# Altium integrated library Linear Technology Power Management Switching Regulator LT1074-LT8705.IntLib: 2252 symbols (part 4 of 148)
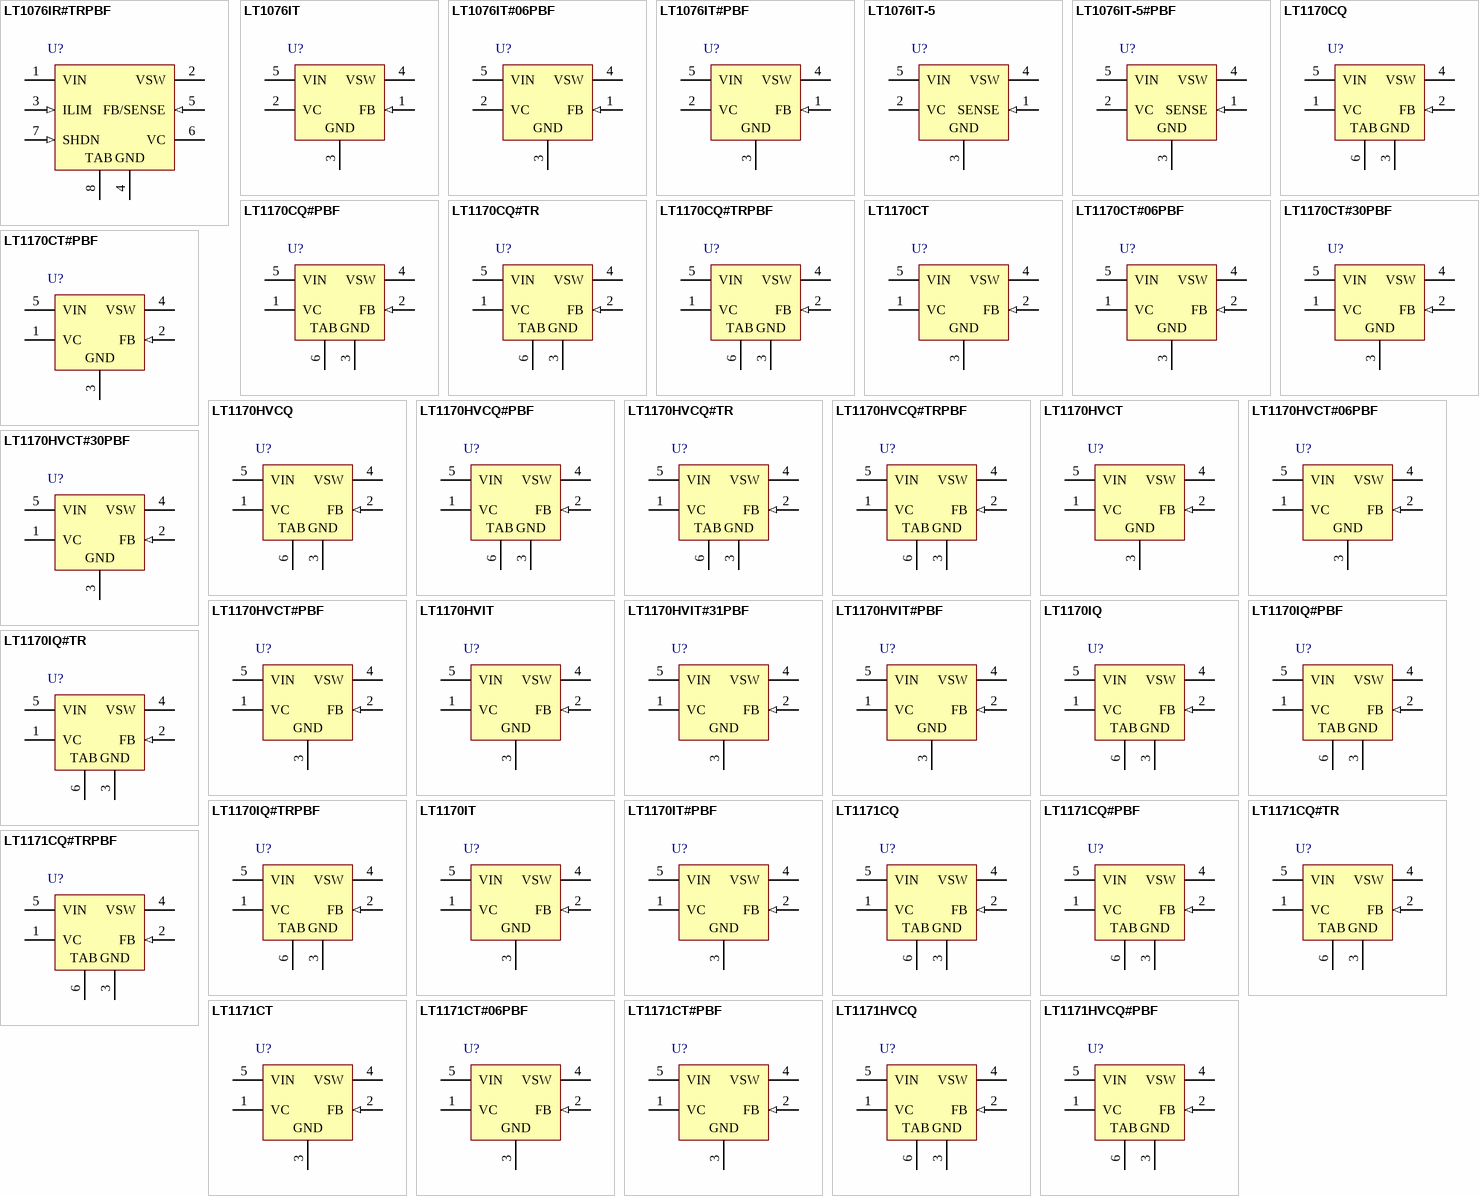
[diagram p74: symbols LT1076IR#TRPBF to LT1171HVCQ#PBF]

## LT1170HVCQ#PBF
designator U?
100 kHz, 5 A, High Efficiency Switching Regulator, 5-pin DPAK (Q-5), 0 to 100 degC, Pb-Free; Manufacturer: Linear Technology; PartNumber: LT1170HVCQ#PBF; Frequency Sync Range: 120kHz - 160kHz; Number of Outputs: 1; DatasheetVersion: Rev. G; PackageVersion: Rev. F, 09/2011; PackageReference: Q-5; PackageDescription: 5-Pin Plastic DD Pak, Body 10.2235 x 8.89 mm, Pitch 1.702 mm; Supplier 1: Digi-Key; Supplier Part Number 1: LT1170HVCQ#PBF-ND; Supplier 2: Farnell; Supplier Part Number 2: 2294887; Supplier 3: Newark; Supplier Part Number 3: 57M2351; RoHS: TRUE; Mounting Technology: Surface Mount; ComponentLink1Description: Manufacturer URL; ComponentLink1URL: http://www.linear.com/; ComponentLink2Description: Datasheet; ComponentLink2URL: http://cds.linear.com/docs/en/datasheet/117012fg.pdf; ComponentLink3Description: Package Specification; ComponentLink3URL: http://cds.linear.com/docs/en/packaging/Q%20DD5%2005-08-1461%20Rev%20F.pdf
footprint LT-Q-5_N (DPAK, 5-Leads, Body 10.22x8.89mm, Pitch 1.702mm, IPC Medium Density)
footprint LT-Q-5_L (DPAK, 5-Leads, Body 10.22x8.89mm, Pitch 1.702mm, IPC High Density)
footprint LT-Q-5_M (DPAK, 5-Leads, Body 10.22x8.89mm, Pitch 1.702mm, IPC Low Density)
pins: 1 VC, 2 FB (in), 3 GND (power), 4 VSW (power), 5 VIN (power), 6 TAB

## LT1170HVCQ#TR
designator U?
100 kHz, 5 A, High Efficiency Switching Regulator, 5-pin DPAK (Q-5), 0 to 100 degC, Tape and Reel; Manufacturer: Linear Technology; PartNumber: LT1170HVCQ#TR; Frequency Sync Range: 120kHz - 160kHz; Number of Outputs: 1; DatasheetVersion: Rev. G; PackageVersion: Rev. F, 09/2011; PackageReference: Q-5; PackageDescription: 5-Pin Plastic DD Pak, Body 10.2235 x 8.89 mm, Pitch 1.702 mm; Supplier 1: Digi-Key; Supplier Part Number 1: LT1170HVCQTR-ND; Packing: Tape and Reel; RoHS: FALSE; Mounting Technology: Surface Mount; ComponentLink1Description: Manufacturer URL; ComponentLink1URL: http://www.linear.com/; ComponentLink2Description: Datasheet; ComponentLink2URL: http://cds.linear.com/docs/en/datasheet/117012fg.pdf; ComponentLink3Description: Package Specification; ComponentLink3URL: http://cds.linear.com/docs/en/packaging/Q%20DD5%2005-08-1461%20Rev%20F.pdf
footprint LT-Q-5_N (DPAK, 5-Leads, Body 10.22x8.89mm, Pitch 1.702mm, IPC Medium Density)
footprint LT-Q-5_L (DPAK, 5-Leads, Body 10.22x8.89mm, Pitch 1.702mm, IPC High Density)
footprint LT-Q-5_M (DPAK, 5-Leads, Body 10.22x8.89mm, Pitch 1.702mm, IPC Low Density)
pins: 1 VC, 2 FB (in), 3 GND (power), 4 VSW (power), 5 VIN (power), 6 TAB

## LT1170HVCQ#TRPBF
designator U?
100 kHz, 5 A, High Efficiency Switching Regulator, 5-pin DPAK (Q-5), 0 to 100 degC, Pb-Free, Tape and Reel; Manufacturer: Linear Technology; PartNumber: LT1170HVCQ#TRPBF; Frequency Sync Range: 120kHz - 160kHz; Number of Outputs: 1; DatasheetVersion: Rev. G; PackageVersion: Rev. F, 09/2011; PackageReference: Q-5; PackageDescription: 5-Pin Plastic DD Pak, Body 10.2235 x 8.89 mm, Pitch 1.702 mm; Supplier 1: Digi-Key; Supplier Part Number 1: LT1170HVCQ#TRPBF-ND; Packing: Tape and Reel; RoHS: TRUE; Mounting Technology: Surface Mount; ComponentLink1Description: Manufacturer URL; ComponentLink1URL: http://www.linear.com/; ComponentLink2Description: Datasheet; ComponentLink2URL: http://cds.linear.com/docs/en/datasheet/117012fg.pdf; ComponentLink3Description: Package Specification; ComponentLink3URL: http://cds.linear.com/docs/en/packaging/Q%20DD5%2005-08-1461%20Rev%20F.pdf
footprint LT-Q-5_N (DPAK, 5-Leads, Body 10.22x8.89mm, Pitch 1.702mm, IPC Medium Density)
footprint LT-Q-5_L (DPAK, 5-Leads, Body 10.22x8.89mm, Pitch 1.702mm, IPC High Density)
footprint LT-Q-5_M (DPAK, 5-Leads, Body 10.22x8.89mm, Pitch 1.702mm, IPC Low Density)
pins: 1 VC, 2 FB (in), 3 GND (power), 4 VSW (power), 5 VIN (power), 6 TAB

## LT1170HVCT
designator U?
100 kHz, 5 A, High Efficiency Switching Regulator, 5-pin FM (T-5), 0 to 100 degC; Manufacturer: Linear Technology; PartNumber: LT1170HVCT; Frequency Sync Range: 120kHz - 160kHz; Number of Outputs: 1; DatasheetVersion: Rev. G; PackageVersion: Aug-10; PackageReference: T-5; PackageDescription: 5-Pin Plastic TO-220 (Standard), Body 10.224 x 8.89 mm, Pitch 1.7 mm; Supplier 1: Digi-Key; Supplier Part Number 1: LT1170HVCT-ND; RoHS: FALSE; Mounting Technology: Through Hole; ComponentLink1Description: Manufacturer URL; ComponentLink1URL: http://www.linear.com/; ComponentLink2Description: Datasheet; ComponentLink2URL: http://cds.linear.com/docs/en/datasheet/117012fg.pdf; ComponentLink3Description: Package Specification; ComponentLink3URL: http://cds.linear.com/docs/en/packaging/TO-220_5_05-08-1421.pdf
footprint LT-T-5-S (FM, 5-Leads, Body 10.55x4.6mm, Pitch 1.7mm)
pins: 1 VC, 2 FB (in), 3 GND (power), 4 VSW (power), 5 VIN (power)

## LT1170HVCT#06PBF
designator U?
100 kHz, 5 A, High Efficiency Switching Regulator, 5-pin FM (T-5), 0 to 100 degC, Pb-Free; Manufacturer: Linear Technology; PartNumber: LT1170HVCT#06PBF; Frequency Sync Range: 120kHz - 160kHz; Number of Outputs: 1; DatasheetVersion: Rev. G; PackageVersion: Aug-10; PackageReference: T-5; PackageDescription: 5-Pin Plastic TO-220 (Standard), Body 10.224 x 8.89 mm, Pitch 1.7 mm; Supplier 1: Digi-Key; Supplier Part Number 1: LT1170HVCT#06PBF-ND; Supplier 2: Farnell; Supplier Part Number 2: 2238155; Supplier 3: Newark; Supplier Part Number 3: 31P7606; RoHS: TRUE; Mounting Technology: Through Hole; ComponentLink1Description: Manufacturer URL; ComponentLink1URL: http://www.linear.com/; ComponentLink2Description: Datasheet; ComponentLink2URL: http://cds.linear.com/docs/en/datasheet/117012fg.pdf; ComponentLink3Description: Package Specification; ComponentLink3URL: http://cds.linear.com/docs/en/packaging/TO-220_5_05-08-1421.pdf
footprint LT-T-5-S (FM, 5-Leads, Body 10.55x4.6mm, Pitch 1.7mm)
pins: 1 VC, 2 FB (in), 3 GND (power), 4 VSW (power), 5 VIN (power)

## LT1170HVCT#30PBF
designator U?
100 kHz, 5 A, High Efficiency Switching Regulator, 5-pin FM (T-5), 0 to 100 degC, Pb-Free; Manufacturer: Linear Technology; PartNumber: LT1170HVCT#30PBF; Frequency Sync Range: 120kHz - 160kHz; Number of Outputs: 1; DatasheetVersion: Rev. G; PackageVersion: Aug-10; PackageReference: T-5; PackageDescription: 5-Pin Plastic TO-220 (Standard), Body 10.224 x 8.89 mm, Pitch 1.7 mm; Supplier 1: Digi-Key; Supplier Part Number 1: LT1170HVCT#30PBF-ND; RoHS: TRUE; Mounting Technology: Through Hole; ComponentLink1Description: Manufacturer URL; ComponentLink1URL: http://www.linear.com/; ComponentLink2Description: Datasheet; ComponentLink2URL: http://cds.linear.com/docs/en/datasheet/117012fg.pdf; ComponentLink3Description: Package Specification; ComponentLink3URL: http://cds.linear.com/docs/en/packaging/TO-220_5_05-08-1421.pdf
footprint LT-T-5-S (FM, 5-Leads, Body 10.55x4.6mm, Pitch 1.7mm)
pins: 1 VC, 2 FB (in), 3 GND (power), 4 VSW (power), 5 VIN (power)

## LT1170HVCT#PBF
designator U?
100 kHz, 5 A, High Efficiency Switching Regulator, 5-pin FM (T-5), 0 to 100 degC, Pb-Free; Manufacturer: Linear Technology; PartNumber: LT1170HVCT#PBF; Frequency Sync Range: 120kHz - 160kHz; Number of Outputs: 1; DatasheetVersion: Rev. G; PackageVersion: Aug-10; PackageReference: T-5; PackageDescription: 5-Pin Plastic TO-220 (Standard), Body 10.224 x 8.89 mm, Pitch 1.7 mm; Supplier 1: Digi-Key; Supplier Part Number 1: LT1170HVCT#PBF-ND; Supplier 2: Farnell; Supplier Part Number 2: 9560165; Supplier 3: Newark; Supplier Part Number 3: 57M2355; RoHS: TRUE; Mounting Technology: Through Hole; ComponentLink1Description: Manufacturer URL; ComponentLink1URL: http://www.linear.com/; ComponentLink2Description: Datasheet; ComponentLink2URL: http://cds.linear.com/docs/en/datasheet/117012fg.pdf; ComponentLink3Description: Package Specification; ComponentLink3URL: http://cds.linear.com/docs/en/packaging/TO-220_5_05-08-1421.pdf
footprint LT-T-5-S (FM, 5-Leads, Body 10.55x4.6mm, Pitch 1.7mm)
pins: 1 VC, 2 FB (in), 3 GND (power), 4 VSW (power), 5 VIN (power)

## LT1170HVIT
designator U?
100 kHz, 5 A, High Efficiency Switching Regulator, 5-pin FM (T-5), -40 to 100 degC; Manufacturer: Linear Technology; PartNumber: LT1170HVIT; Frequency Sync Range: 120kHz - 160kHz; Number of Outputs: 1; DatasheetVersion: Rev. G; PackageVersion: Aug-10; PackageReference: T-5; PackageDescription: 5-Pin Plastic TO-220 (Standard), Body 10.224 x 8.89 mm, Pitch 1.7 mm; Supplier 1: Digi-Key; Supplier Part Number 1: LT1170HVIT-ND; Supplier 2: Newark; Supplier Part Number 2: 57M2357; RoHS: FALSE; Mounting Technology: Through Hole; ComponentLink1Description: Manufacturer URL; ComponentLink1URL: http://www.linear.com/; ComponentLink2Description: Datasheet; ComponentLink2URL: http://cds.linear.com/docs/en/datasheet/117012fg.pdf; ComponentLink3Description: Package Specification; ComponentLink3URL: http://cds.linear.com/docs/en/packaging/TO-220_5_05-08-1421.pdf
footprint LT-T-5-S (FM, 5-Leads, Body 10.55x4.6mm, Pitch 1.7mm)
pins: 1 VC, 2 FB (in), 3 GND (power), 4 VSW (power), 5 VIN (power)

## LT1170HVIT#31PBF
designator U?
100 kHz, 5 A, High Efficiency Switching Regulator, 5-pin FM (T-5), -40 to 100 degC, Pb-Free; Manufacturer: Linear Technology; PartNumber: LT1170HVIT#31PBF; Frequency Sync Range: 120kHz - 160kHz; Number of Outputs: 1; DatasheetVersion: Rev. G; PackageVersion: Aug-10; PackageReference: T-5; PackageDescription: 5-Pin Plastic TO-220 (Standard), Body 10.224 x 8.89 mm, Pitch 1.7 mm; Supplier 1: Digi-Key; Supplier Part Number 1: LT1170HVIT#31PBF-ND; Supplier 2: Newark; Supplier Part Number 2: 87T9238; RoHS: TRUE; Mounting Technology: Through Hole; ComponentLink1Description: Manufacturer URL; ComponentLink1URL: http://www.linear.com/; ComponentLink2Description: Datasheet; ComponentLink2URL: http://cds.linear.com/docs/en/datasheet/117012fg.pdf; ComponentLink3Description: Package Specification; ComponentLink3URL: http://cds.linear.com/docs/en/packaging/TO-220_5_05-08-1421.pdf
footprint LT-T-5-S (FM, 5-Leads, Body 10.55x4.6mm, Pitch 1.7mm)
pins: 1 VC, 2 FB (in), 3 GND (power), 4 VSW (power), 5 VIN (power)

## LT1170HVIT#PBF
designator U?
100 kHz, 5 A, High Efficiency Switching Regulator, 5-pin FM (T-5), -40 to 100 degC, Pb-Free; Manufacturer: Linear Technology; PartNumber: LT1170HVIT#PBF; Frequency Sync Range: 120kHz - 160kHz; Number of Outputs: 1; DatasheetVersion: Rev. G; PackageVersion: Aug-10; PackageReference: T-5; PackageDescription: 5-Pin Plastic TO-220 (Standard), Body 10.224 x 8.89 mm, Pitch 1.7 mm; Supplier 1: Digi-Key; Supplier Part Number 1: LT1170HVIT#PBF-ND; RoHS: TRUE; Mounting Technology: Through Hole; ComponentLink1Description: Manufacturer URL; ComponentLink1URL: http://www.linear.com/; ComponentLink2Description: Datasheet; ComponentLink2URL: http://cds.linear.com/docs/en/datasheet/117012fg.pdf; ComponentLink3Description: Package Specification; ComponentLink3URL: http://cds.linear.com/docs/en/packaging/TO-220_5_05-08-1421.pdf
footprint LT-T-5-S (FM, 5-Leads, Body 10.55x4.6mm, Pitch 1.7mm)
pins: 1 VC, 2 FB (in), 3 GND (power), 4 VSW (power), 5 VIN (power)

## LT1170IQ
designator U?
100 kHz, 5 A, High Efficiency Switching Regulator, 5-pin DPAK (Q-5), -40 to 100 degC; Manufacturer: Linear Technology; PartNumber: LT1170IQ; Frequency Sync Range: 120kHz - 160kHz; Number of Outputs: 1; DatasheetVersion: Rev. G; PackageVersion: Rev. F, 09/2011; PackageReference: Q-5; PackageDescription: 5-Pin Plastic DD Pak, Body 10.2235 x 8.89 mm, Pitch 1.702 mm; Supplier 1: Digi-Key; Supplier Part Number 1: LT1170IQ-ND; Supplier 2: Newark; Supplier Part Number 2: 57M2359; RoHS: FALSE; Mounting Technology: Surface Mount; ComponentLink1Description: Manufacturer URL; ComponentLink1URL: http://www.linear.com/; ComponentLink2Description: Datasheet; ComponentLink2URL: http://cds.linear.com/docs/en/datasheet/117012fg.pdf; ComponentLink3Description: Package Specification; ComponentLink3URL: http://cds.linear.com/docs/en/packaging/Q%20DD5%2005-08-1461%20Rev%20F.pdf
footprint LT-Q-5_N (DPAK, 5-Leads, Body 10.22x8.89mm, Pitch 1.702mm, IPC Medium Density)
footprint LT-Q-5_L (DPAK, 5-Leads, Body 10.22x8.89mm, Pitch 1.702mm, IPC High Density)
footprint LT-Q-5_M (DPAK, 5-Leads, Body 10.22x8.89mm, Pitch 1.702mm, IPC Low Density)
pins: 1 VC, 2 FB (in), 3 GND (power), 4 VSW (power), 5 VIN (power), 6 TAB

## LT1170IQ#PBF
designator U?
100 kHz, 5 A, High Efficiency Switching Regulator, 5-pin DPAK (Q-5), -40 to 100 degC, Pb-Free; Manufacturer: Linear Technology; PartNumber: LT1170IQ#PBF; Frequency Sync Range: 120kHz - 160kHz; Number of Outputs: 1; DatasheetVersion: Rev. G; PackageVersion: Rev. F, 09/2011; PackageReference: Q-5; PackageDescription: 5-Pin Plastic DD Pak, Body 10.2235 x 8.89 mm, Pitch 1.702 mm; Supplier 1: Digi-Key; Supplier Part Number 1: LT1170IQ#PBF-ND; Supplier 2: Farnell; Supplier Part Number 2: 2308584; Supplier 3: Newark; Supplier Part Number 3: 57M2360; RoHS: TRUE; Mounting Technology: Surface Mount; ComponentLink1Description: Manufacturer URL; ComponentLink1URL: http://www.linear.com/; ComponentLink2Description: Datasheet; ComponentLink2URL: http://cds.linear.com/docs/en/datasheet/117012fg.pdf; ComponentLink3Description: Package Specification; ComponentLink3URL: http://cds.linear.com/docs/en/packaging/Q%20DD5%2005-08-1461%20Rev%20F.pdf
footprint LT-Q-5_N (DPAK, 5-Leads, Body 10.22x8.89mm, Pitch 1.702mm, IPC Medium Density)
footprint LT-Q-5_L (DPAK, 5-Leads, Body 10.22x8.89mm, Pitch 1.702mm, IPC High Density)
footprint LT-Q-5_M (DPAK, 5-Leads, Body 10.22x8.89mm, Pitch 1.702mm, IPC Low Density)
pins: 1 VC, 2 FB (in), 3 GND (power), 4 VSW (power), 5 VIN (power), 6 TAB

## LT1170IQ#TR
designator U?
100 kHz, 5 A, High Efficiency Switching Regulator, 5-pin DPAK (Q-5), -40 to 100 degC, Tape and Reel; Manufacturer: Linear Technology; PartNumber: LT1170IQ#TR; Frequency Sync Range: 120kHz - 160kHz; Number of Outputs: 1; DatasheetVersion: Rev. G; PackageVersion: Rev. F, 09/2011; PackageReference: Q-5; PackageDescription: 5-Pin Plastic DD Pak, Body 10.2235 x 8.89 mm, Pitch 1.702 mm; Supplier 1: Digi-Key; Supplier Part Number 1: LT1170IQ#TR-ND; Supplier 2: Newark; Supplier Part Number 2: 57M2361; Packing: Tape and Reel; RoHS: FALSE; Mounting Technology: Surface Mount; ComponentLink1Description: Manufacturer URL; ComponentLink1URL: http://www.linear.com/; ComponentLink2Description: Datasheet; ComponentLink2URL: http://cds.linear.com/docs/en/datasheet/117012fg.pdf; ComponentLink3Description: Package Specification; ComponentLink3URL: http://cds.linear.com/docs/en/packaging/Q%20DD5%2005-08-1461%20Rev%20F.pdf
footprint LT-Q-5_N (DPAK, 5-Leads, Body 10.22x8.89mm, Pitch 1.702mm, IPC Medium Density)
footprint LT-Q-5_L (DPAK, 5-Leads, Body 10.22x8.89mm, Pitch 1.702mm, IPC High Density)
footprint LT-Q-5_M (DPAK, 5-Leads, Body 10.22x8.89mm, Pitch 1.702mm, IPC Low Density)
pins: 1 VC, 2 FB (in), 3 GND (power), 4 VSW (power), 5 VIN (power), 6 TAB

## LT1170IQ#TRPBF
designator U?
100 kHz, 5 A, High Efficiency Switching Regulator, 5-pin DPAK (Q-5), -40 to 100 degC, Pb-Free, Tape and Reel; Manufacturer: Linear Technology; PartNumber: LT1170IQ#TRPBF; Frequency Sync Range: 120kHz - 160kHz; Number of Outputs: 1; DatasheetVersion: Rev. G; PackageVersion: Rev. F, 09/2011; PackageReference: Q-5; PackageDescription: 5-Pin Plastic DD Pak, Body 10.2235 x 8.89 mm, Pitch 1.702 mm; Supplier 1: Digi-Key; Supplier Part Number 1: LT1170IQ#TRPBF-ND; Supplier 2: Newark; Supplier Part Number 2: 57M2362; Packing: Tape and Reel; RoHS: TRUE; Mounting Technology: Surface Mount; ComponentLink1Description: Manufacturer URL; ComponentLink1URL: http://www.linear.com/; ComponentLink2Description: Datasheet; ComponentLink2URL: http://cds.linear.com/docs/en/datasheet/117012fg.pdf; ComponentLink3Description: Package Specification; ComponentLink3URL: http://cds.linear.com/docs/en/packaging/Q%20DD5%2005-08-1461%20Rev%20F.pdf
footprint LT-Q-5_N (DPAK, 5-Leads, Body 10.22x8.89mm, Pitch 1.702mm, IPC Medium Density)
footprint LT-Q-5_L (DPAK, 5-Leads, Body 10.22x8.89mm, Pitch 1.702mm, IPC High Density)
footprint LT-Q-5_M (DPAK, 5-Leads, Body 10.22x8.89mm, Pitch 1.702mm, IPC Low Density)
pins: 1 VC, 2 FB (in), 3 GND (power), 4 VSW (power), 5 VIN (power), 6 TAB

## LT1170IT
designator U?
100 kHz, 5 A, High Efficiency Switching Regulator, 5-pin FM (T-5), -40 to 100 degC; Manufacturer: Linear Technology; PartNumber: LT1170IT; Frequency Sync Range: 120kHz - 160kHz; Number of Outputs: 1; DatasheetVersion: Rev. G; PackageVersion: Aug-10; PackageReference: T-5; PackageDescription: 5-Pin Plastic TO-220 (Standard), Body 10.224 x 8.89 mm, Pitch 1.7 mm; Supplier 1: Digi-Key; Supplier Part Number 1: LT1170IT-ND; Supplier 2: Newark; Supplier Part Number 2: 57M2363; RoHS: FALSE; Mounting Technology: Through Hole; ComponentLink1Description: Manufacturer URL; ComponentLink1URL: http://www.linear.com/; ComponentLink2Description: Datasheet; ComponentLink2URL: http://cds.linear.com/docs/en/datasheet/117012fg.pdf; ComponentLink3Description: Package Specification; ComponentLink3URL: http://cds.linear.com/docs/en/packaging/TO-220_5_05-08-1421.pdf
footprint LT-T-5-S (FM, 5-Leads, Body 10.55x4.6mm, Pitch 1.7mm)
pins: 1 VC, 2 FB (in), 3 GND (power), 4 VSW (power), 5 VIN (power)

## LT1170IT#PBF
designator U?
100 kHz, 5 A, High Efficiency Switching Regulator, 5-pin FM (T-5), -40 to 100 degC, Pb-Free; Manufacturer: Linear Technology; PartNumber: LT1170IT#PBF; Frequency Sync Range: 120kHz - 160kHz; Number of Outputs: 1; DatasheetVersion: Rev. G; PackageVersion: Aug-10; PackageReference: T-5; PackageDescription: 5-Pin Plastic TO-220 (Standard), Body 10.224 x 8.89 mm, Pitch 1.7 mm; Supplier 1: Digi-Key; Supplier Part Number 1: LT1170IT#PBF-ND; Supplier 2: Newark; Supplier Part Number 2: 57M2364; RoHS: TRUE; Mounting Technology: Through Hole; ComponentLink1Description: Manufacturer URL; ComponentLink1URL: http://www.linear.com/; ComponentLink2Description: Datasheet; ComponentLink2URL: http://cds.linear.com/docs/en/datasheet/117012fg.pdf; ComponentLink3Description: Package Specification; ComponentLink3URL: http://cds.linear.com/docs/en/packaging/TO-220_5_05-08-1421.pdf
footprint LT-T-5-S (FM, 5-Leads, Body 10.55x4.6mm, Pitch 1.7mm)
pins: 1 VC, 2 FB (in), 3 GND (power), 4 VSW (power), 5 VIN (power)

## LT1171CQ
designator U?
100 kHz, 2.5 A, High Efficiency Switching Regulator, 5-pin DPAK (Q-5), 0 to 100 degC; Manufacturer: Linear Technology; PartNumber: LT1171CQ; Frequency Sync Range: 120kHz - 160kHz; Number of Outputs: 1; DatasheetVersion: Rev. G; PackageVersion: Rev. F, 09/2011; PackageReference: Q-5; PackageDescription: 5-Pin Plastic DD Pak, Body 10.2235 x 8.89 mm, Pitch 1.702 mm; Supplier 1: Digi-Key; Supplier Part Number 1: LT1171CQ-ND; Supplier 2: Newark; Supplier Part Number 2: 57M2365; RoHS: FALSE; Mounting Technology: Surface Mount; ComponentLink1Description: Manufacturer URL; ComponentLink1URL: http://www.linear.com/; ComponentLink2Description: Datasheet; ComponentLink2URL: http://cds.linear.com/docs/en/datasheet/117012fg.pdf; ComponentLink3Description: Package Specification; ComponentLink3URL: http://cds.linear.com/docs/en/packaging/Q%20DD5%2005-08-1461%20Rev%20F.pdf
footprint LT-Q-5_N (DPAK, 5-Leads, Body 10.22x8.89mm, Pitch 1.702mm, IPC Medium Density)
footprint LT-Q-5_L (DPAK, 5-Leads, Body 10.22x8.89mm, Pitch 1.702mm, IPC High Density)
footprint LT-Q-5_M (DPAK, 5-Leads, Body 10.22x8.89mm, Pitch 1.702mm, IPC Low Density)
pins: 1 VC, 2 FB (in), 3 GND (power), 4 VSW (power), 5 VIN (power), 6 TAB

## LT1171CQ#PBF
designator U?
100 kHz, 2.5 A, High Efficiency Switching Regulator, 5-pin DPAK (Q-5), 0 to 100 degC, Pb-Free; Manufacturer: Linear Technology; PartNumber: LT1171CQ#PBF; Frequency Sync Range: 120kHz - 160kHz; Number of Outputs: 1; DatasheetVersion: Rev. G; PackageVersion: Rev. F, 09/2011; PackageReference: Q-5; PackageDescription: 5-Pin Plastic DD Pak, Body 10.2235 x 8.89 mm, Pitch 1.702 mm; Supplier 1: Digi-Key; Supplier Part Number 1: LT1171CQ#PBF-ND; Supplier 2: Newark; Supplier Part Number 2: 57M2366; RoHS: TRUE; Mounting Technology: Surface Mount; ComponentLink1Description: Manufacturer URL; ComponentLink1URL: http://www.linear.com/; ComponentLink2Description: Datasheet; ComponentLink2URL: http://cds.linear.com/docs/en/datasheet/117012fg.pdf; ComponentLink3Description: Package Specification; ComponentLink3URL: http://cds.linear.com/docs/en/packaging/Q%20DD5%2005-08-1461%20Rev%20F.pdf
footprint LT-Q-5_N (DPAK, 5-Leads, Body 10.22x8.89mm, Pitch 1.702mm, IPC Medium Density)
footprint LT-Q-5_L (DPAK, 5-Leads, Body 10.22x8.89mm, Pitch 1.702mm, IPC High Density)
footprint LT-Q-5_M (DPAK, 5-Leads, Body 10.22x8.89mm, Pitch 1.702mm, IPC Low Density)
pins: 1 VC, 2 FB (in), 3 GND (power), 4 VSW (power), 5 VIN (power), 6 TAB

## LT1171CQ#TR
designator U?
100 kHz, 2.5 A, High Efficiency Switching Regulator, 5-pin DPAK (Q-5), 0 to 100 degC, Tape and Reel; Manufacturer: Linear Technology; PartNumber: LT1171CQ#TR; Frequency Sync Range: 120kHz - 160kHz; Number of Outputs: 1; DatasheetVersion: Rev. G; PackageVersion: Rev. F, 09/2011; PackageReference: Q-5; PackageDescription: 5-Pin Plastic DD Pak, Body 10.2235 x 8.89 mm, Pitch 1.702 mm; Supplier 1: Digi-Key; Supplier Part Number 1: LT1171CQ#TR-ND; Packing: Tape and Reel; RoHS: FALSE; Mounting Technology: Surface Mount; ComponentLink1Description: Manufacturer URL; ComponentLink1URL: http://www.linear.com/; ComponentLink2Description: Datasheet; ComponentLink2URL: http://cds.linear.com/docs/en/datasheet/117012fg.pdf; ComponentLink3Description: Package Specification; ComponentLink3URL: http://cds.linear.com/docs/en/packaging/Q%20DD5%2005-08-1461%20Rev%20F.pdf
footprint LT-Q-5_N (DPAK, 5-Leads, Body 10.22x8.89mm, Pitch 1.702mm, IPC Medium Density)
footprint LT-Q-5_L (DPAK, 5-Leads, Body 10.22x8.89mm, Pitch 1.702mm, IPC High Density)
footprint LT-Q-5_M (DPAK, 5-Leads, Body 10.22x8.89mm, Pitch 1.702mm, IPC Low Density)
pins: 1 VC, 2 FB (in), 3 GND (power), 4 VSW (power), 5 VIN (power), 6 TAB

## LT1171CQ#TRPBF
designator U?
100 kHz, 2.5 A, High Efficiency Switching Regulator, 5-pin DPAK (Q-5), 0 to 100 degC, Pb-Free, Tape and Reel; Manufacturer: Linear Technology; PartNumber: LT1171CQ#TRPBF; Frequency Sync Range: 120kHz - 160kHz; Number of Outputs: 1; DatasheetVersion: Rev. G; PackageVersion: Rev. F, 09/2011; PackageReference: Q-5; PackageDescription: 5-Pin Plastic DD Pak, Body 10.2235 x 8.89 mm, Pitch 1.702 mm; Supplier 1: Digi-Key; Supplier Part Number 1: LT1171CQ#TRPBF-ND; Packing: Tape and Reel; RoHS: TRUE; Mounting Technology: Surface Mount; ComponentLink1Description: Manufacturer URL; ComponentLink1URL: http://www.linear.com/; ComponentLink2Description: Datasheet; ComponentLink2URL: http://cds.linear.com/docs/en/datasheet/117012fg.pdf; ComponentLink3Description: Package Specification; ComponentLink3URL: http://cds.linear.com/docs/en/packaging/Q%20DD5%2005-08-1461%20Rev%20F.pdf
footprint LT-Q-5_N (DPAK, 5-Leads, Body 10.22x8.89mm, Pitch 1.702mm, IPC Medium Density)
footprint LT-Q-5_L (DPAK, 5-Leads, Body 10.22x8.89mm, Pitch 1.702mm, IPC High Density)
footprint LT-Q-5_M (DPAK, 5-Leads, Body 10.22x8.89mm, Pitch 1.702mm, IPC Low Density)
pins: 1 VC, 2 FB (in), 3 GND (power), 4 VSW (power), 5 VIN (power), 6 TAB

## LT1171CT
designator U?
100 kHz, 2.5 A, High Efficiency Switching Regulator, 5-pin FM (T-5), 0 to 100 degC; Manufacturer: Linear Technology; PartNumber: LT1171CT; Frequency Sync Range: 120kHz - 160kHz; Number of Outputs: 1; DatasheetVersion: Rev. G; PackageVersion: Aug-10; PackageReference: T-5; PackageDescription: 5-Pin Plastic TO-220 (Standard), Body 10.224 x 8.89 mm, Pitch 1.7 mm; Supplier 1: Digi-Key; Supplier Part Number 1: LT1171CT-ND; RoHS: FALSE; Mounting Technology: Through Hole; ComponentLink1Description: Manufacturer URL; ComponentLink1URL: http://www.linear.com/; ComponentLink2Description: Datasheet; ComponentLink2URL: http://cds.linear.com/docs/en/datasheet/117012fg.pdf; ComponentLink3Description: Package Specification; ComponentLink3URL: http://cds.linear.com/docs/en/packaging/TO-220_5_05-08-1421.pdf
footprint LT-T-5-S (FM, 5-Leads, Body 10.55x4.6mm, Pitch 1.7mm)
pins: 1 VC, 2 FB (in), 3 GND (power), 4 VSW (power), 5 VIN (power)

## LT1171CT#06PBF
designator U?
100 kHz, 2.5 A, High Efficiency Switching Regulator, 5-pin FM (T-5), 0 to 100 degC, Pb-Free; Manufacturer: Linear Technology; PartNumber: LT1171CT#06PBF; Frequency Sync Range: 120kHz - 160kHz; Number of Outputs: 1; DatasheetVersion: Rev. G; PackageVersion: Aug-10; PackageReference: T-5; PackageDescription: 5-Pin Plastic TO-220 (Standard), Body 10.224 x 8.89 mm, Pitch 1.7 mm; Supplier 1: Digi-Key; Supplier Part Number 1: LT1171CT#06PBF-ND; Supplier 2: Farnell; Supplier Part Number 2: 2164922; Supplier 3: Newark; Supplier Part Number 3: 46P5715; RoHS: TRUE; Mounting Technology: Through Hole; ComponentLink1Description: Manufacturer URL; ComponentLink1URL: http://www.linear.com/; ComponentLink2Description: Datasheet; ComponentLink2URL: http://cds.linear.com/docs/en/datasheet/117012fg.pdf; ComponentLink3Description: Package Specification; ComponentLink3URL: http://cds.linear.com/docs/en/packaging/TO-220_5_05-08-1421.pdf
footprint LT-T-5-S (FM, 5-Leads, Body 10.55x4.6mm, Pitch 1.7mm)
pins: 1 VC, 2 FB (in), 3 GND (power), 4 VSW (power), 5 VIN (power)

## LT1171CT#PBF
designator U?
100 kHz, 2.5 A, High Efficiency Switching Regulator, 5-pin FM (T-5), 0 to 100 degC, Pb-Free; Manufacturer: Linear Technology; PartNumber: LT1171CT#PBF; Frequency Sync Range: 120kHz - 160kHz; Number of Outputs: 1; DatasheetVersion: Rev. G; PackageVersion: Aug-10; PackageReference: T-5; PackageDescription: 5-Pin Plastic TO-220 (Standard), Body 10.224 x 8.89 mm, Pitch 1.7 mm; Supplier 1: Digi-Key; Supplier Part Number 1: LT1171CT#PBF-ND; Supplier 2: Farnell; Supplier Part Number 2: 9560173; Supplier 3: Newark; Supplier Part Number 3: 57M2370; RoHS: TRUE; Mounting Technology: Through Hole; ComponentLink1Description: Manufacturer URL; ComponentLink1URL: http://www.linear.com/; ComponentLink2Description: Datasheet; ComponentLink2URL: http://cds.linear.com/docs/en/datasheet/117012fg.pdf; ComponentLink3Description: Package Specification; ComponentLink3URL: http://cds.linear.com/docs/en/packaging/TO-220_5_05-08-1421.pdf
footprint LT-T-5-S (FM, 5-Leads, Body 10.55x4.6mm, Pitch 1.7mm)
pins: 1 VC, 2 FB (in), 3 GND (power), 4 VSW (power), 5 VIN (power)

## LT1171HVCQ
designator U?
100 kHz, 2.5 A, High Efficiency Switching Regulator, 5-pin DPAK (Q-5), 0 to 100 degC; Manufacturer: Linear Technology; PartNumber: LT1171HVCQ; Frequency Sync Range: 120kHz - 160kHz; Number of Outputs: 1; DatasheetVersion: Rev. G; PackageVersion: Rev. F, 09/2011; PackageReference: Q-5; PackageDescription: 5-Pin Plastic DD Pak, Body 10.2235 x 8.89 mm, Pitch 1.702 mm; Supplier 1: Digi-Key; Supplier Part Number 1: LT1171HVCQ-ND; RoHS: FALSE; Mounting Technology: Surface Mount; ComponentLink1Description: Manufacturer URL; ComponentLink1URL: http://www.linear.com/; ComponentLink2Description: Datasheet; ComponentLink2URL: http://cds.linear.com/docs/en/datasheet/117012fg.pdf; ComponentLink3Description: Package Specification; ComponentLink3URL: http://cds.linear.com/docs/en/packaging/Q%20DD5%2005-08-1461%20Rev%20F.pdf
footprint LT-Q-5_N (DPAK, 5-Leads, Body 10.22x8.89mm, Pitch 1.702mm, IPC Medium Density)
footprint LT-Q-5_L (DPAK, 5-Leads, Body 10.22x8.89mm, Pitch 1.702mm, IPC High Density)
footprint LT-Q-5_M (DPAK, 5-Leads, Body 10.22x8.89mm, Pitch 1.702mm, IPC Low Density)
pins: 1 VC, 2 FB (in), 3 GND (power), 4 VSW (power), 5 VIN (power), 6 TAB

## LT1171HVCQ#PBF
designator U?
100 kHz, 2.5 A, High Efficiency Switching Regulator, 5-pin DPAK (Q-5), 0 to 100 degC, Pb-Free; Manufacturer: Linear Technology; PartNumber: LT1171HVCQ#PBF; Frequency Sync Range: 120kHz - 160kHz; Number of Outputs: 1; DatasheetVersion: Rev. G; PackageVersion: Rev. F, 09/2011; PackageReference: Q-5; PackageDescription: 5-Pin Plastic DD Pak, Body 10.2235 x 8.89 mm, Pitch 1.702 mm; Supplier 1: Digi-Key; Supplier Part Number 1: LT1171HVCQ#PBF-ND; Supplier 2: Newark; Supplier Part Number 2: 57M2373; RoHS: TRUE; Mounting Technology: Surface Mount; ComponentLink1Description: Manufacturer URL; ComponentLink1URL: http://www.linear.com/; ComponentLink2Description: Datasheet; ComponentLink2URL: http://cds.linear.com/docs/en/datasheet/117012fg.pdf; ComponentLink3Description: Package Specification; ComponentLink3URL: http://cds.linear.com/docs/en/packaging/Q%20DD5%2005-08-1461%20Rev%20F.pdf
footprint LT-Q-5_N (DPAK, 5-Leads, Body 10.22x8.89mm, Pitch 1.702mm, IPC Medium Density)
footprint LT-Q-5_L (DPAK, 5-Leads, Body 10.22x8.89mm, Pitch 1.702mm, IPC High Density)
footprint LT-Q-5_M (DPAK, 5-Leads, Body 10.22x8.89mm, Pitch 1.702mm, IPC Low Density)
pins: 1 VC, 2 FB (in), 3 GND (power), 4 VSW (power), 5 VIN (power), 6 TAB

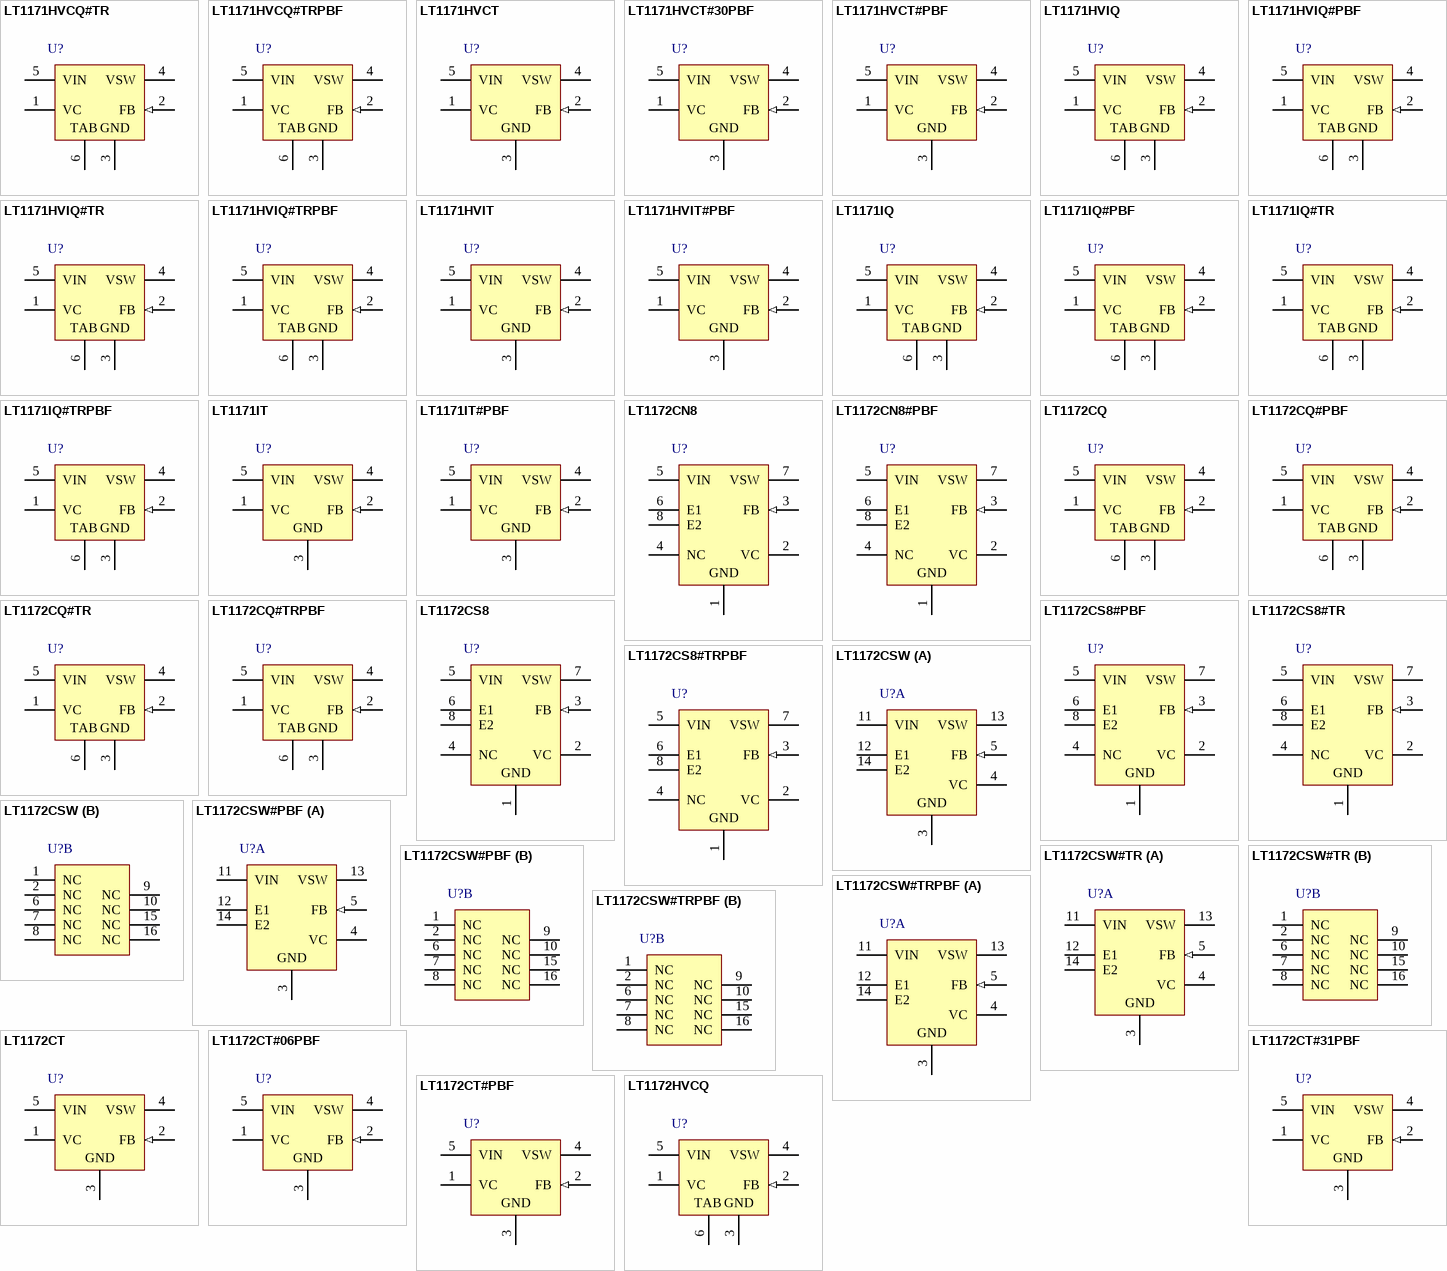
[diagram p3: symbols LT1171HVCQ#TR to LT1172HVCQ]

## LT1171HVCQ#TR
designator U?
100 kHz, 2.5 A, High Efficiency Switching Regulator, 5-pin DPAK (Q-5), 0 to 100 degC, Tape and Reel; Manufacturer: Linear Technology; PartNumber: LT1171HVCQ#TR; Frequency Sync Range: 120kHz - 160kHz; Number of Outputs: 1; DatasheetVersion: Rev. G; PackageVersion: Rev. F, 09/2011; PackageReference: Q-5; PackageDescription: 5-Pin Plastic DD Pak, Body 10.2235 x 8.89 mm, Pitch 1.702 mm; Supplier 1: Digi-Key; Supplier Part Number 1: LT1171HVCQ#TR-ND; Packing: Tape and Reel; RoHS: FALSE; Mounting Technology: Surface Mount; ComponentLink1Description: Manufacturer URL; ComponentLink1URL: http://www.linear.com/; ComponentLink2Description: Datasheet; ComponentLink2URL: http://cds.linear.com/docs/en/datasheet/117012fg.pdf; ComponentLink3Description: Package Specification; ComponentLink3URL: http://cds.linear.com/docs/en/packaging/Q%20DD5%2005-08-1461%20Rev%20F.pdf
footprint LT-Q-5_N (DPAK, 5-Leads, Body 10.22x8.89mm, Pitch 1.702mm, IPC Medium Density)
footprint LT-Q-5_L (DPAK, 5-Leads, Body 10.22x8.89mm, Pitch 1.702mm, IPC High Density)
footprint LT-Q-5_M (DPAK, 5-Leads, Body 10.22x8.89mm, Pitch 1.702mm, IPC Low Density)
pins: 1 VC, 2 FB (in), 3 GND (power), 4 VSW (power), 5 VIN (power), 6 TAB

## LT1171HVCQ#TRPBF
designator U?
100 kHz, 2.5 A, High Efficiency Switching Regulator, 5-pin DPAK (Q-5), 0 to 100 degC, Pb-Free, Tape and Reel; Manufacturer: Linear Technology; PartNumber: LT1171HVCQ#TRPBF; Frequency Sync Range: 120kHz - 160kHz; Number of Outputs: 1; DatasheetVersion: Rev. G; PackageVersion: Rev. F, 09/2011; PackageReference: Q-5; PackageDescription: 5-Pin Plastic DD Pak, Body 10.2235 x 8.89 mm, Pitch 1.702 mm; Supplier 1: Digi-Key; Supplier Part Number 1: LT1171HVCQ#TRPBF-ND; Packing: Tape and Reel; RoHS: TRUE; Mounting Technology: Surface Mount; ComponentLink1Description: Manufacturer URL; ComponentLink1URL: http://www.linear.com/; ComponentLink2Description: Datasheet; ComponentLink2URL: http://cds.linear.com/docs/en/datasheet/117012fg.pdf; ComponentLink3Description: Package Specification; ComponentLink3URL: http://cds.linear.com/docs/en/packaging/Q%20DD5%2005-08-1461%20Rev%20F.pdf
footprint LT-Q-5_N (DPAK, 5-Leads, Body 10.22x8.89mm, Pitch 1.702mm, IPC Medium Density)
footprint LT-Q-5_L (DPAK, 5-Leads, Body 10.22x8.89mm, Pitch 1.702mm, IPC High Density)
footprint LT-Q-5_M (DPAK, 5-Leads, Body 10.22x8.89mm, Pitch 1.702mm, IPC Low Density)
pins: 1 VC, 2 FB (in), 3 GND (power), 4 VSW (power), 5 VIN (power), 6 TAB

## LT1171HVCT
designator U?
100 kHz, 2.5 A, High Efficiency Switching Regulator, 5-pin FM (T-5), 0 to 100 degC; Manufacturer: Linear Technology; PartNumber: LT1171HVCT; Frequency Sync Range: 120kHz - 160kHz; Number of Outputs: 1; DatasheetVersion: Rev. G; PackageVersion: Aug-10; PackageReference: T-5; PackageDescription: 5-Pin Plastic TO-220 (Standard), Body 10.224 x 8.89 mm, Pitch 1.7 mm; Supplier 1: Digi-Key; Supplier Part Number 1: LT1171HVCT-ND; RoHS: FALSE; Mounting Technology: Through Hole; ComponentLink1Description: Manufacturer URL; ComponentLink1URL: http://www.linear.com/; ComponentLink2Description: Datasheet; ComponentLink2URL: http://cds.linear.com/docs/en/datasheet/117012fg.pdf; ComponentLink3Description: Package Specification; ComponentLink3URL: http://cds.linear.com/docs/en/packaging/TO-220_5_05-08-1421.pdf
footprint LT-T-5-S (FM, 5-Leads, Body 10.55x4.6mm, Pitch 1.7mm)
pins: 1 VC, 2 FB (in), 3 GND (power), 4 VSW (power), 5 VIN (power)

## LT1171HVCT#30PBF
designator U?
100 kHz, 2.5 A, High Efficiency Switching Regulator, 5-pin FM (T-5), 0 to 100 degC, Pb-Free; Manufacturer: Linear Technology; PartNumber: LT1171HVCT#30PBF; Frequency Sync Range: 120kHz - 160kHz; Number of Outputs: 1; DatasheetVersion: Rev. G; PackageVersion: Aug-10; PackageReference: T-5; PackageDescription: 5-Pin Plastic TO-220 (Standard), Body 10.224 x 8.89 mm, Pitch 1.7 mm; Supplier 1: Digi-Key; Supplier Part Number 1: LT1171HVCT#30PBF-ND; RoHS: TRUE; Mounting Technology: Through Hole; ComponentLink1Description: Manufacturer URL; ComponentLink1URL: http://www.linear.com/; ComponentLink2Description: Datasheet; ComponentLink2URL: http://cds.linear.com/docs/en/datasheet/117012fg.pdf; ComponentLink3Description: Package Specification; ComponentLink3URL: http://cds.linear.com/docs/en/packaging/TO-220_5_05-08-1421.pdf
footprint LT-T-5-S (FM, 5-Leads, Body 10.55x4.6mm, Pitch 1.7mm)
pins: 1 VC, 2 FB (in), 3 GND (power), 4 VSW (power), 5 VIN (power)

## LT1171HVCT#PBF
designator U?
100 kHz, 2.5 A, High Efficiency Switching Regulator, 5-pin FM (T-5), 0 to 100 degC, Pb-Free; Manufacturer: Linear Technology; PartNumber: LT1171HVCT#PBF; Frequency Sync Range: 120kHz - 160kHz; Number of Outputs: 1; DatasheetVersion: Rev. G; PackageVersion: Aug-10; PackageReference: T-5; PackageDescription: 5-Pin Plastic TO-220 (Standard), Body 10.224 x 8.89 mm, Pitch 1.7 mm; Supplier 1: Digi-Key; Supplier Part Number 1: LT1171HVCT#PBF-ND; RoHS: TRUE; Mounting Technology: Through Hole; ComponentLink1Description: Manufacturer URL; ComponentLink1URL: http://www.linear.com/; ComponentLink2Description: Datasheet; ComponentLink2URL: http://cds.linear.com/docs/en/datasheet/117012fg.pdf; ComponentLink3Description: Package Specification; ComponentLink3URL: http://cds.linear.com/docs/en/packaging/TO-220_5_05-08-1421.pdf
footprint LT-T-5-S (FM, 5-Leads, Body 10.55x4.6mm, Pitch 1.7mm)
pins: 1 VC, 2 FB (in), 3 GND (power), 4 VSW (power), 5 VIN (power)

## LT1171HVIQ
designator U?
100 kHz, 2.5 A, High Efficiency Switching Regulator, 5-pin DPAK (Q-5), -40 to 100 degC; Manufacturer: Linear Technology; PartNumber: LT1171HVIQ; Frequency Sync Range: 120kHz - 160kHz; Number of Outputs: 1; DatasheetVersion: Rev. G; PackageVersion: Rev. F, 09/2011; PackageReference: Q-5; PackageDescription: 5-Pin Plastic DD Pak, Body 10.2235 x 8.89 mm, Pitch 1.702 mm; Supplier 1: Digi-Key; Supplier Part Number 1: LT1171HVIQ-ND; Supplier 2: Newark; Supplier Part Number 2: 57M2378; RoHS: FALSE; Mounting Technology: Surface Mount; ComponentLink1Description: Manufacturer URL; ComponentLink1URL: http://www.linear.com/; ComponentLink2Description: Datasheet; ComponentLink2URL: http://cds.linear.com/docs/en/datasheet/117012fg.pdf; ComponentLink3Description: Package Specification; ComponentLink3URL: http://cds.linear.com/docs/en/packaging/Q%20DD5%2005-08-1461%20Rev%20F.pdf
footprint LT-Q-5_N (DPAK, 5-Leads, Body 10.22x8.89mm, Pitch 1.702mm, IPC Medium Density)
footprint LT-Q-5_L (DPAK, 5-Leads, Body 10.22x8.89mm, Pitch 1.702mm, IPC High Density)
footprint LT-Q-5_M (DPAK, 5-Leads, Body 10.22x8.89mm, Pitch 1.702mm, IPC Low Density)
pins: 1 VC, 2 FB (in), 3 GND (power), 4 VSW (power), 5 VIN (power), 6 TAB

## LT1171HVIQ#PBF
designator U?
100 kHz, 2.5 A, High Efficiency Switching Regulator, 5-pin DPAK (Q-5), -40 to 100 degC, Pb-Free; Manufacturer: Linear Technology; PartNumber: LT1171HVIQ#PBF; Frequency Sync Range: 120kHz - 160kHz; Number of Outputs: 1; DatasheetVersion: Rev. G; PackageVersion: Rev. F, 09/2011; PackageReference: Q-5; PackageDescription: 5-Pin Plastic DD Pak, Body 10.2235 x 8.89 mm, Pitch 1.702 mm; Supplier 1: Digi-Key; Supplier Part Number 1: LT1171HVIQ#PBF-ND; Supplier 2: Newark; Supplier Part Number 2: 57M2379; RoHS: TRUE; Mounting Technology: Surface Mount; ComponentLink1Description: Manufacturer URL; ComponentLink1URL: http://www.linear.com/; ComponentLink2Description: Datasheet; ComponentLink2URL: http://cds.linear.com/docs/en/datasheet/117012fg.pdf; ComponentLink3Description: Package Specification; ComponentLink3URL: http://cds.linear.com/docs/en/packaging/Q%20DD5%2005-08-1461%20Rev%20F.pdf
footprint LT-Q-5_N (DPAK, 5-Leads, Body 10.22x8.89mm, Pitch 1.702mm, IPC Medium Density)
footprint LT-Q-5_L (DPAK, 5-Leads, Body 10.22x8.89mm, Pitch 1.702mm, IPC High Density)
footprint LT-Q-5_M (DPAK, 5-Leads, Body 10.22x8.89mm, Pitch 1.702mm, IPC Low Density)
pins: 1 VC, 2 FB (in), 3 GND (power), 4 VSW (power), 5 VIN (power), 6 TAB

## LT1171HVIQ#TR
designator U?
100 kHz, 2.5 A, High Efficiency Switching Regulator, 5-pin DPAK (Q-5), -40 to 100 degC, Tape and Reel; Manufacturer: Linear Technology; PartNumber: LT1171HVIQ#TR; Frequency Sync Range: 120kHz - 160kHz; Number of Outputs: 1; DatasheetVersion: Rev. G; PackageVersion: Rev. F, 09/2011; PackageReference: Q-5; PackageDescription: 5-Pin Plastic DD Pak, Body 10.2235 x 8.89 mm, Pitch 1.702 mm; Supplier 1: Digi-Key; Supplier Part Number 1: LT1171HVIQ#TR-ND; Packing: Tape and Reel; RoHS: FALSE; Mounting Technology: Surface Mount; ComponentLink1Description: Manufacturer URL; ComponentLink1URL: http://www.linear.com/; ComponentLink2Description: Datasheet; ComponentLink2URL: http://cds.linear.com/docs/en/datasheet/117012fg.pdf; ComponentLink3Description: Package Specification; ComponentLink3URL: http://cds.linear.com/docs/en/packaging/Q%20DD5%2005-08-1461%20Rev%20F.pdf
footprint LT-Q-5_N (DPAK, 5-Leads, Body 10.22x8.89mm, Pitch 1.702mm, IPC Medium Density)
footprint LT-Q-5_L (DPAK, 5-Leads, Body 10.22x8.89mm, Pitch 1.702mm, IPC High Density)
footprint LT-Q-5_M (DPAK, 5-Leads, Body 10.22x8.89mm, Pitch 1.702mm, IPC Low Density)
pins: 1 VC, 2 FB (in), 3 GND (power), 4 VSW (power), 5 VIN (power), 6 TAB

## LT1171HVIQ#TRPBF
designator U?
100 kHz, 2.5 A, High Efficiency Switching Regulator, 5-pin DPAK (Q-5), -40 to 100 degC, Pb-Free, Tape and Reel; Manufacturer: Linear Technology; PartNumber: LT1171HVIQ#TRPBF; Frequency Sync Range: 120kHz - 160kHz; Number of Outputs: 1; DatasheetVersion: Rev. G; PackageVersion: Rev. F, 09/2011; PackageReference: Q-5; PackageDescription: 5-Pin Plastic DD Pak, Body 10.2235 x 8.89 mm, Pitch 1.702 mm; Supplier 1: Digi-Key; Supplier Part Number 1: LT1171HVIQ#TRPBF-ND; Supplier 2: Newark; Supplier Part Number 2: 57M2381; Packing: Tape and Reel; RoHS: TRUE; Mounting Technology: Surface Mount; ComponentLink1Description: Manufacturer URL; ComponentLink1URL: http://www.linear.com/; ComponentLink2Description: Datasheet; ComponentLink2URL: http://cds.linear.com/docs/en/datasheet/117012fg.pdf; ComponentLink3Description: Package Specification; ComponentLink3URL: http://cds.linear.com/docs/en/packaging/Q%20DD5%2005-08-1461%20Rev%20F.pdf
footprint LT-Q-5_N (DPAK, 5-Leads, Body 10.22x8.89mm, Pitch 1.702mm, IPC Medium Density)
footprint LT-Q-5_L (DPAK, 5-Leads, Body 10.22x8.89mm, Pitch 1.702mm, IPC High Density)
footprint LT-Q-5_M (DPAK, 5-Leads, Body 10.22x8.89mm, Pitch 1.702mm, IPC Low Density)
pins: 1 VC, 2 FB (in), 3 GND (power), 4 VSW (power), 5 VIN (power), 6 TAB

## LT1171HVIT
designator U?
100 kHz, 2.5 A, High Efficiency Switching Regulator, 5-pin FM (T-5), -40 to 100 degC; Manufacturer: Linear Technology; PartNumber: LT1171HVIT; Frequency Sync Range: 120kHz - 160kHz; Number of Outputs: 1; DatasheetVersion: Rev. G; PackageVersion: Aug-10; PackageReference: T-5; PackageDescription: 5-Pin Plastic TO-220 (Standard), Body 10.224 x 8.89 mm, Pitch 1.7 mm; Supplier 1: Digi-Key; Supplier Part Number 1: LT1171HVIT-ND; RoHS: FALSE; Mounting Technology: Through Hole; ComponentLink1Description: Manufacturer URL; ComponentLink1URL: http://www.linear.com/; ComponentLink2Description: Datasheet; ComponentLink2URL: http://cds.linear.com/docs/en/datasheet/117012fg.pdf; ComponentLink3Description: Package Specification; ComponentLink3URL: http://cds.linear.com/docs/en/packaging/TO-220_5_05-08-1421.pdf
footprint LT-T-5-S (FM, 5-Leads, Body 10.55x4.6mm, Pitch 1.7mm)
pins: 1 VC, 2 FB (in), 3 GND (power), 4 VSW (power), 5 VIN (power)

## LT1171HVIT#PBF
designator U?
100 kHz, 2.5 A, High Efficiency Switching Regulator, 5-pin FM (T-5), -40 to 100 degC, Pb-Free; Manufacturer: Linear Technology; PartNumber: LT1171HVIT#PBF; Frequency Sync Range: 120kHz - 160kHz; Number of Outputs: 1; DatasheetVersion: Rev. G; PackageVersion: Aug-10; PackageReference: T-5; PackageDescription: 5-Pin Plastic TO-220 (Standard), Body 10.224 x 8.89 mm, Pitch 1.7 mm; Supplier 1: Digi-Key; Supplier Part Number 1: LT1171HVIT#PBF-ND; Supplier 2: Newark; Supplier Part Number 2: 57M2383; RoHS: TRUE; Mounting Technology: Through Hole; ComponentLink1Description: Manufacturer URL; ComponentLink1URL: http://www.linear.com/; ComponentLink2Description: Datasheet; ComponentLink2URL: http://cds.linear.com/docs/en/datasheet/117012fg.pdf; ComponentLink3Description: Package Specification; ComponentLink3URL: http://cds.linear.com/docs/en/packaging/TO-220_5_05-08-1421.pdf
footprint LT-T-5-S (FM, 5-Leads, Body 10.55x4.6mm, Pitch 1.7mm)
pins: 1 VC, 2 FB (in), 3 GND (power), 4 VSW (power), 5 VIN (power)

## LT1171IQ
designator U?
100 kHz, 2.5 A, High Efficiency Switching Regulator, 5-pin DPAK (Q-5), -40 to 100 degC; Manufacturer: Linear Technology; PartNumber: LT1171IQ; Frequency Sync Range: 120kHz - 160kHz; Number of Outputs: 1; DatasheetVersion: Rev. G; PackageVersion: Rev. F, 09/2011; PackageReference: Q-5; PackageDescription: 5-Pin Plastic DD Pak, Body 10.2235 x 8.89 mm, Pitch 1.702 mm; Supplier 1: Digi-Key; Supplier Part Number 1: LT1171IQ-ND; RoHS: FALSE; Mounting Technology: Surface Mount; ComponentLink1Description: Manufacturer URL; ComponentLink1URL: http://www.linear.com/; ComponentLink2Description: Datasheet; ComponentLink2URL: http://cds.linear.com/docs/en/datasheet/117012fg.pdf; ComponentLink3Description: Package Specification; ComponentLink3URL: http://cds.linear.com/docs/en/packaging/Q%20DD5%2005-08-1461%20Rev%20F.pdf
footprint LT-Q-5_N (DPAK, 5-Leads, Body 10.22x8.89mm, Pitch 1.702mm, IPC Medium Density)
footprint LT-Q-5_L (DPAK, 5-Leads, Body 10.22x8.89mm, Pitch 1.702mm, IPC High Density)
footprint LT-Q-5_M (DPAK, 5-Leads, Body 10.22x8.89mm, Pitch 1.702mm, IPC Low Density)
pins: 1 VC, 2 FB (in), 3 GND (power), 4 VSW (power), 5 VIN (power), 6 TAB

## LT1171IQ#PBF
designator U?
100 kHz, 2.5 A, High Efficiency Switching Regulator, 5-pin DPAK (Q-5), -40 to 100 degC, Pb-Free; Manufacturer: Linear Technology; PartNumber: LT1171IQ#PBF; Frequency Sync Range: 120kHz - 160kHz; Number of Outputs: 1; DatasheetVersion: Rev. G; PackageVersion: Rev. F, 09/2011; PackageReference: Q-5; PackageDescription: 5-Pin Plastic DD Pak, Body 10.2235 x 8.89 mm, Pitch 1.702 mm; Supplier 1: Digi-Key; Supplier Part Number 1: LT1171IQ#PBF-ND; Supplier 2: Farnell; Supplier Part Number 2: 1663388; Supplier 3: Newark; Supplier Part Number 3: 57M2385; RoHS: TRUE; Mounting Technology: Surface Mount; ComponentLink1Description: Manufacturer URL; ComponentLink1URL: http://www.linear.com/; ComponentLink2Description: Datasheet; ComponentLink2URL: http://cds.linear.com/docs/en/datasheet/117012fg.pdf; ComponentLink3Description: Package Specification; ComponentLink3URL: http://cds.linear.com/docs/en/packaging/Q%20DD5%2005-08-1461%20Rev%20F.pdf
footprint LT-Q-5_N (DPAK, 5-Leads, Body 10.22x8.89mm, Pitch 1.702mm, IPC Medium Density)
footprint LT-Q-5_L (DPAK, 5-Leads, Body 10.22x8.89mm, Pitch 1.702mm, IPC High Density)
footprint LT-Q-5_M (DPAK, 5-Leads, Body 10.22x8.89mm, Pitch 1.702mm, IPC Low Density)
pins: 1 VC, 2 FB (in), 3 GND (power), 4 VSW (power), 5 VIN (power), 6 TAB

## LT1171IQ#TR
designator U?
100 kHz, 2.5 A, High Efficiency Switching Regulator, 5-pin DPAK (Q-5), -40 to 100 degC, Tape and Reel; Manufacturer: Linear Technology; PartNumber: LT1171IQ#TR; Frequency Sync Range: 120kHz - 160kHz; Number of Outputs: 1; DatasheetVersion: Rev. G; PackageVersion: Rev. F, 09/2011; PackageReference: Q-5; PackageDescription: 5-Pin Plastic DD Pak, Body 10.2235 x 8.89 mm, Pitch 1.702 mm; Supplier 1: Digi-Key; Supplier Part Number 1: LT1171IQ#TR-ND; Supplier 2: Newark; Supplier Part Number 2: 57M2386; Packing: Tape and Reel; RoHS: FALSE; Mounting Technology: Surface Mount; ComponentLink1Description: Manufacturer URL; ComponentLink1URL: http://www.linear.com/; ComponentLink2Description: Datasheet; ComponentLink2URL: http://cds.linear.com/docs/en/datasheet/117012fg.pdf; ComponentLink3Description: Package Specification; ComponentLink3URL: http://cds.linear.com/docs/en/packaging/Q%20DD5%2005-08-1461%20Rev%20F.pdf
footprint LT-Q-5_N (DPAK, 5-Leads, Body 10.22x8.89mm, Pitch 1.702mm, IPC Medium Density)
footprint LT-Q-5_L (DPAK, 5-Leads, Body 10.22x8.89mm, Pitch 1.702mm, IPC High Density)
footprint LT-Q-5_M (DPAK, 5-Leads, Body 10.22x8.89mm, Pitch 1.702mm, IPC Low Density)
pins: 1 VC, 2 FB (in), 3 GND (power), 4 VSW (power), 5 VIN (power), 6 TAB

## LT1171IQ#TRPBF
designator U?
100 kHz, 2.5 A, High Efficiency Switching Regulator, 5-pin DPAK (Q-5), -40 to 100 degC, Pb-Free, Tape and Reel; Manufacturer: Linear Technology; PartNumber: LT1171IQ#TRPBF; Frequency Sync Range: 120kHz - 160kHz; Number of Outputs: 1; DatasheetVersion: Rev. G; PackageVersion: Rev. F, 09/2011; PackageReference: Q-5; PackageDescription: 5-Pin Plastic DD Pak, Body 10.2235 x 8.89 mm, Pitch 1.702 mm; Supplier 1: Digi-Key; Supplier Part Number 1: LT1171IQ#TRPBF-ND; Supplier 2: Newark; Supplier Part Number 2: 57M2387; Packing: Tape and Reel; RoHS: TRUE; Mounting Technology: Surface Mount; ComponentLink1Description: Manufacturer URL; ComponentLink1URL: http://www.linear.com/; ComponentLink2Description: Datasheet; ComponentLink2URL: http://cds.linear.com/docs/en/datasheet/117012fg.pdf; ComponentLink3Description: Package Specification; ComponentLink3URL: http://cds.linear.com/docs/en/packaging/Q%20DD5%2005-08-1461%20Rev%20F.pdf
footprint LT-Q-5_N (DPAK, 5-Leads, Body 10.22x8.89mm, Pitch 1.702mm, IPC Medium Density)
footprint LT-Q-5_L (DPAK, 5-Leads, Body 10.22x8.89mm, Pitch 1.702mm, IPC High Density)
footprint LT-Q-5_M (DPAK, 5-Leads, Body 10.22x8.89mm, Pitch 1.702mm, IPC Low Density)
pins: 1 VC, 2 FB (in), 3 GND (power), 4 VSW (power), 5 VIN (power), 6 TAB

## LT1171IT
designator U?
100 kHz, 2.5 A, High Efficiency Switching Regulator, 5-pin FM (T-5), -40 to 100 degC; Manufacturer: Linear Technology; PartNumber: LT1171IT; Frequency Sync Range: 120kHz - 160kHz; Number of Outputs: 1; DatasheetVersion: Rev. G; PackageVersion: Aug-10; PackageReference: T-5; PackageDescription: 5-Pin Plastic TO-220 (Standard), Body 10.224 x 8.89 mm, Pitch 1.7 mm; Supplier 1: Digi-Key; Supplier Part Number 1: LT1171IT-ND; RoHS: FALSE; Mounting Technology: Through Hole; ComponentLink1Description: Manufacturer URL; ComponentLink1URL: http://www.linear.com/; ComponentLink2Description: Datasheet; ComponentLink2URL: http://cds.linear.com/docs/en/datasheet/117012fg.pdf; ComponentLink3Description: Package Specification; ComponentLink3URL: http://cds.linear.com/docs/en/packaging/TO-220_5_05-08-1421.pdf
footprint LT-T-5-S (FM, 5-Leads, Body 10.55x4.6mm, Pitch 1.7mm)
pins: 1 VC, 2 FB (in), 3 GND (power), 4 VSW (power), 5 VIN (power)

## LT1171IT#PBF
designator U?
100 kHz, 2.5 A, High Efficiency Switching Regulator, 5-pin FM (T-5), -40 to 100 degC, Pb-Free; Manufacturer: Linear Technology; PartNumber: LT1171IT#PBF; Frequency Sync Range: 120kHz - 160kHz; Number of Outputs: 1; DatasheetVersion: Rev. G; PackageVersion: Aug-10; PackageReference: T-5; PackageDescription: 5-Pin Plastic TO-220 (Standard), Body 10.224 x 8.89 mm, Pitch 1.7 mm; Supplier 1: Digi-Key; Supplier Part Number 1: LT1171IT#PBF-ND; RoHS: TRUE; Mounting Technology: Through Hole; ComponentLink1Description: Manufacturer URL; ComponentLink1URL: http://www.linear.com/; ComponentLink2Description: Datasheet; ComponentLink2URL: http://cds.linear.com/docs/en/datasheet/117012fg.pdf; ComponentLink3Description: Package Specification; ComponentLink3URL: http://cds.linear.com/docs/en/packaging/TO-220_5_05-08-1421.pdf
footprint LT-T-5-S (FM, 5-Leads, Body 10.55x4.6mm, Pitch 1.7mm)
pins: 1 VC, 2 FB (in), 3 GND (power), 4 VSW (power), 5 VIN (power)

## LT1172CN8
designator U?
100 kHz, 1.25 A, High Efficiency Switching Regulator, 8-pin DIP (N8-8), 0 to 100 degC; Manufacturer: Linear Technology; PartNumber: LT1172CN8; Frequency Sync Range: 120kHz - 160kHz; Number of Outputs: 1; DatasheetVersion: Rev. G; PackageVersion: Rev. I, 07/2011; PackageReference: N8-8; PackageDescription: 8-Pin PDIP, Body 10.16 x 6.48 mm, Pitch 2.54 mm; Supplier 1: Digi-Key; Supplier Part Number 1: LT1172CN8-ND; RoHS: FALSE; Mounting Technology: Through Hole; ComponentLink1Description: Manufacturer URL; ComponentLink1URL: http://www.linear.com/; ComponentLink2Description: Datasheet; ComponentLink2URL: http://cds.linear.com/docs/en/datasheet/117012fg.pdf; ComponentLink3Description: Package Specification; ComponentLink3URL: http://www.linear.com/docs/en/packaging/05081510_I_N8.pdf
footprint LT-N8-8 (DIP, 8-Leads, Body 10.15x6.85mm, Pitch 2.54mm)
pins: 1 GND (power), 2 VC, 3 FB (in), 4 NC, 5 VIN (power), 6 E1, 7 VSW (power), 8 E2